# Altium schematic symbol library kmilo17pet-Microchip_MixedSignal.SchLib: 1399 symbols (part 35 of 36)
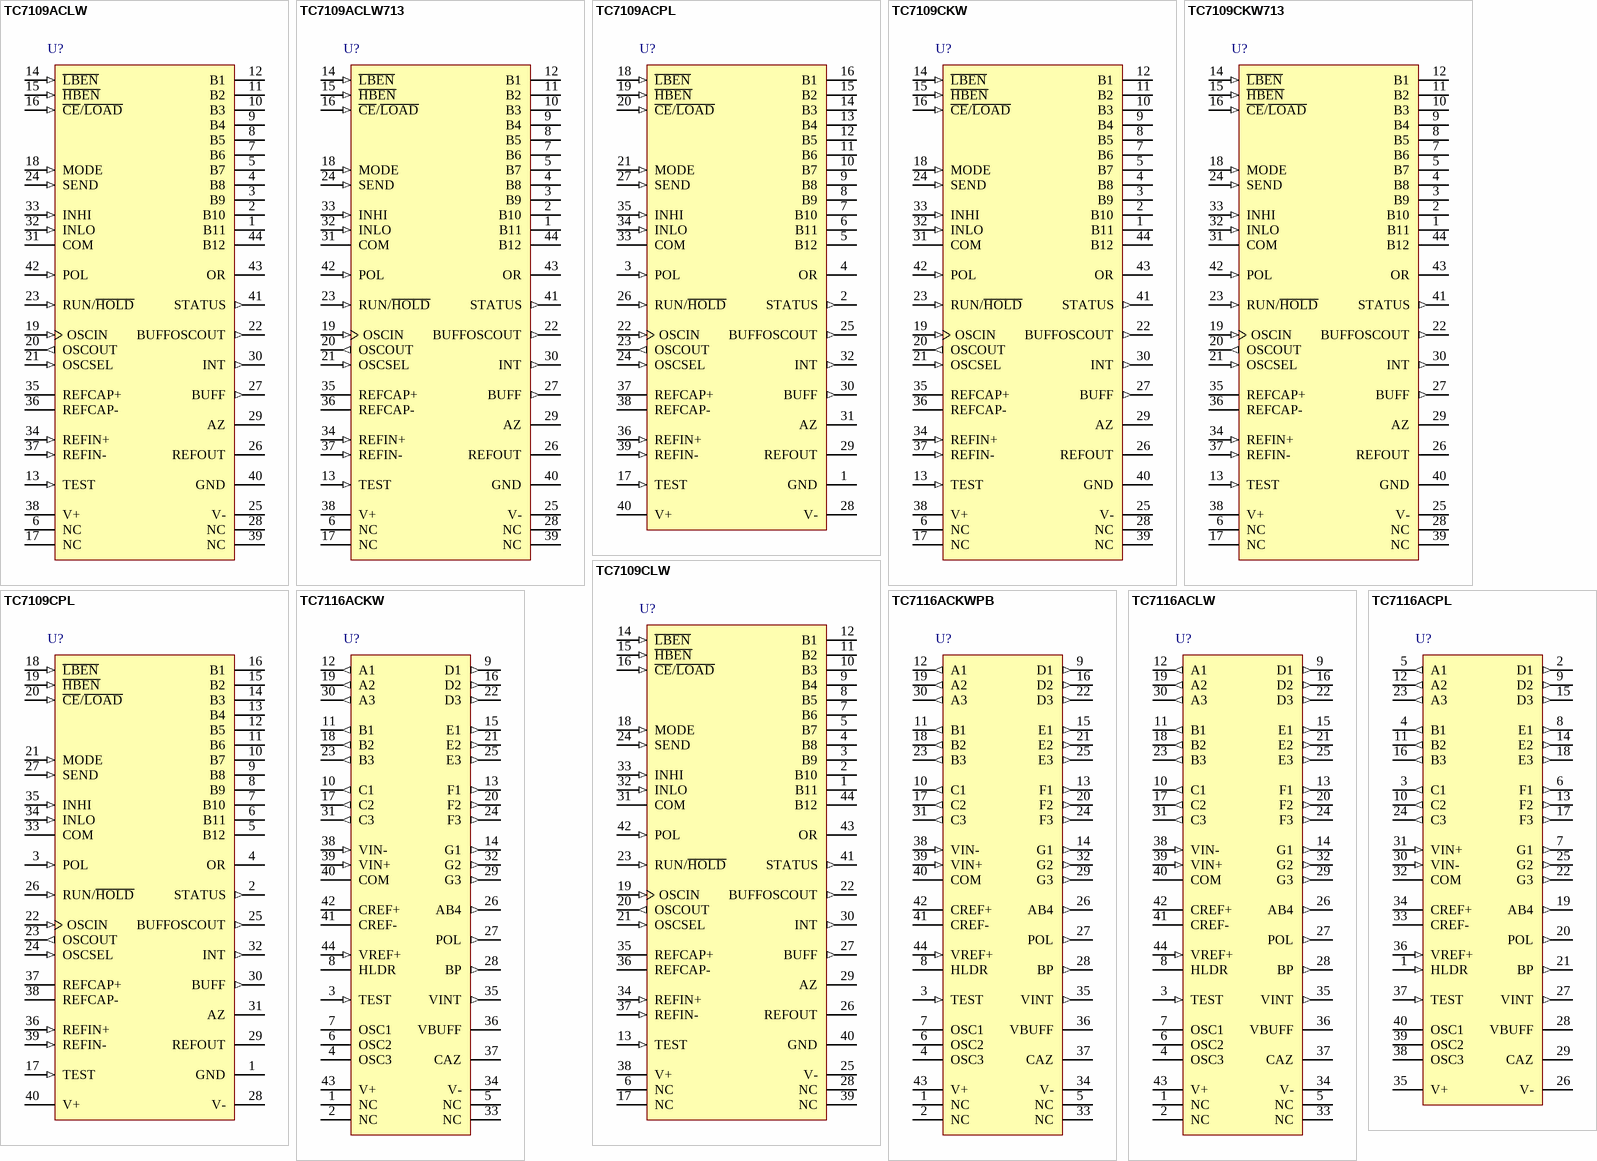
[diagram p78: symbols TC7109ACLW to TC7116ACPL]

## TC7116ACKWPB
designator U?
3-1/2 Digit Analog-to-Digital Converters with Hold, 44-Pin MQFP, Commercial Temperature; Manufacturer: Microchip; PartNumber: TC7116ACKWPB; DatasheetVersion: revA, Sep-2006; PackageVersion: revBB, Aug-2009; PackageReference: MQFP-KW44; PackageDescription: 44-Lead Plastic Metric Quad Flatpack (KW) - 10x10x2mm Body, 3.20mm [MQFP]; Mounting Technology: Surface Mount; Code_JEDEC: MS-022-AB; Code_IPC: QFP80P1320X1320-44; ComponentLink1Description: Manufacturer URL; ComponentLink1URL: http://www.microchip.com/; ComponentLink2Description: Datasheet; ComponentLink2URL: http://ww1.microchip.com/downloads/en/DeviceDoc/22011A.pdf; ComponentLink3Description: Package Specification; ComponentLink3URL: http://www.microchip.com/stellent/groups/techpub_sg/documents/packagingspec/en012702.pdf
footprint MQFP-KW44_N (QFP, 44-Leads, Body 10x10mm, Pitch 0.8mm, IPC Medium Density)
footprint MQFP-KW44_L (QFP, 44-Leads, Body 10x10mm, Pitch 0.8mm, IPC High Density)
footprint MQFP-KW44_M (QFP, 44-Leads, Body 10x10mm, Pitch 0.8mm, IPC Low Density)
pins: 1 NC, 2 NC, 3 TEST (in), 4 OSC3, 5 NC, 6 OSC2, 7 OSC1, 8 HLDR, 9 D1 (out), 10 C1 (out), 11 B1 (out), 12 A1 (out), 13 F1 (out), 14 G1 (out), 15 E1 (out), 16 D2 (out), 17 C2 (out), 18 B2 (out), 19 A2 (out), 20 F2 (out), 21 E2 (out), 22 D3 (out), 23 B3 (out), 24 F3 (out), 25 E3 (out), 26 AB4 (out), 27 POL (out), 28 BP (out), 29 G3 (out), 30 A3 (out), 31 C3 (out), 32 G2 (out), 33 NC, 34 V- (power), 35 VINT (out), 36 VBUFF, 37 CAZ, 38 VIN- (in), 39 VIN+ (in), 40 COM (power), 41 CREF-, 42 CREF+, 43 V+ (power), 44 VREF+ (in)

## TC7116ACLW
designator U?
3-1/2 Digit Analog-to-Digital Converters with Hold, 44-Pin PLCC, Commercial Temperature; Manufacturer: Microchip; PartNumber: TC7116ACLW; DatasheetVersion: Feb-2006; PackageVersion: revBB, Aug-2009; PackageReference: PLCC-LW44; PackageDescription: 44-Lead Plastic Leaded Chip Carrier (LW) - Square [PLCC]; Supplier 1: Digi-Key; Supplier Part Number 1: TC7116ACLW-ND; Mounting Technology: Surface Mount; Code_IPC: PLCC-44; ComponentLink1Description: Manufacturer URL; ComponentLink1URL: http://www.microchip.com/; ComponentLink2Description: Datasheet; ComponentLink2URL: http://ww1.microchip.com/downloads/en/DeviceDoc/21457C.pdf; ComponentLink3Description: Package Specification; ComponentLink3URL: http://www.microchip.com/stellent/groups/techpub_sg/documents/packagingspec/en012702.pdf
footprint PLCC-LW44_N (Leaded Chip Carrier, 44-Leads, Body 16.6x16.6mm, Pitch 1.27mm, IPC Medium Density)
footprint PLCC-LW44_L (Leaded Chip Carrier, 44-Leads, Body 16.6x16.6mm, Pitch 1.27mm, IPC High Density)
footprint PLCC-LW44_M (Leaded Chip Carrier, 44-Leads, Body 16.6x16.6mm, Pitch 1.27mm, IPC Low Density)
pins: 1 NC, 2 NC, 3 TEST (in), 4 OSC3, 5 NC, 6 OSC2, 7 OSC1, 8 HLDR, 9 D1 (out), 10 C1 (out), 11 B1 (out), 12 A1 (out), 13 F1 (out), 14 G1 (out), 15 E1 (out), 16 D2 (out), 17 C2 (out), 18 B2 (out), 19 A2 (out), 20 F2 (out), 21 E2 (out), 22 D3 (out), 23 B3 (out), 24 F3 (out), 25 E3 (out), 26 AB4 (out), 27 POL (out), 28 BP (out), 29 G3 (out), 30 A3 (out), 31 C3 (out), 32 G2 (out), 33 NC, 34 V- (power), 35 VINT (out), 36 VBUFF, 37 CAZ, 38 VIN- (in), 39 VIN+ (in), 40 COM (power), 41 CREF-, 42 CREF+, 43 V+ (power), 44 VREF+ (in)

## TC7116ACPL
designator U?
3-1/2 Digit Analog-to-Digital Converters with Hold, 40-Pin PDIP, Commercial Temperature; Manufacturer: Microchip; PartNumber: TC7116ACPL; DatasheetVersion: Feb-2006; PackageVersion: revBB, Aug-2009; PackageReference: PDIP600-PL40; PackageDescription: 40-Lead Plastic Dual In-Line (PL) - 600mil Body [PDIP]; Supplier 1: Digi-Key; Supplier Part Number 1: TC7116ACPL-ND; Mounting Technology: Through Hole; ComponentLink1Description: Manufacturer URL; ComponentLink1URL: http://www.microchip.com/; ComponentLink2Description: Datasheet; ComponentLink2URL: http://ww1.microchip.com/downloads/en/DeviceDoc/21457C.pdf; ComponentLink3Description: Package Specification; ComponentLink3URL: http://www.microchip.com/stellent/groups/techpub_sg/documents/packagingspec/en012702.pdf
footprint PDIP600-PL40 (DIP, 40-Leads, Row Spacing 15.24mm, Pitch 2.54mm, Body 51.8x13.5mm)
pins: 1 HLDR (in), 2 D1 (out), 3 C1 (out), 4 B1 (out), 5 A1 (out), 6 F1 (out), 7 G1 (out), 8 E1 (out), 9 D2 (out), 10 C2 (out), 11 B2 (out), 12 A2 (out), 13 F2 (out), 14 E2 (out), 15 D3 (out), 16 B3 (out), 17 F3 (out), 18 E3 (out), 19 AB4 (out), 20 POL (out), 21 BP (out), 22 G3 (out), 23 A3 (out), 24 C3 (out), 25 G2 (out), 26 V- (power), 27 VINT (out), 28 VBUFF, 29 CAZ, 30 VIN- (in), 31 VIN+ (in), 32 COM (power), 33 CREF-, 34 CREF+, 35 V+ (power), 36 VREF+ (in), 37 TEST (in), 38 OSC3, 39 OSC2, 40 OSC1

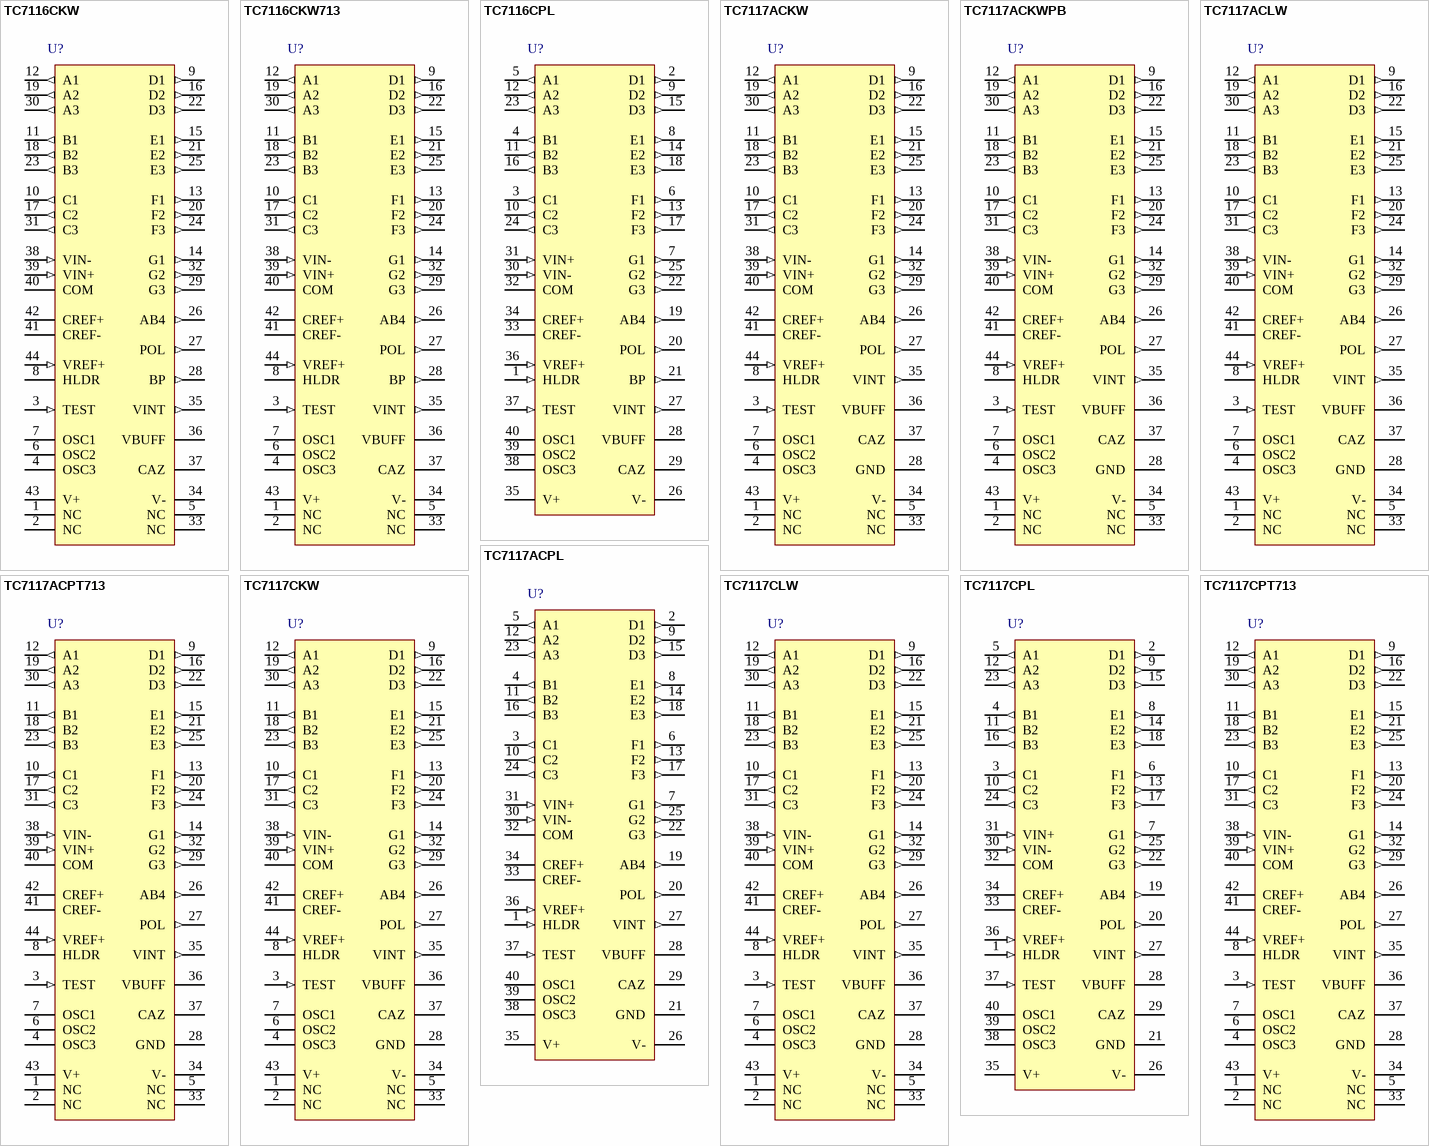
[diagram p42: symbols TC7116CKW to TC7117CPT713]

## TC7116CKW
designator U?
3-1/2 Digit Analog-to-Digital Converters with Hold, 44-Pin MQFP, Commercial Temperature; Manufacturer: Microchip; PartNumber: TC7116CKW; DatasheetVersion: Feb-2006; PackageVersion: revBB, Aug-2009; PackageReference: MQFP-KW44; PackageDescription: 44-Lead Plastic Metric Quad Flatpack (KW) - 10x10x2mm Body, 3.20mm [MQFP]; Supplier 1: Digi-Key; Supplier Part Number 1: TC7116CKW-ND; Mounting Technology: Surface Mount; Code_JEDEC: MS-022-AB; Code_IPC: QFP80P1320X1320-44; ComponentLink1Description: Manufacturer URL; ComponentLink1URL: http://www.microchip.com/; ComponentLink2Description: Datasheet; ComponentLink2URL: http://ww1.microchip.com/downloads/en/DeviceDoc/21457C.pdf; ComponentLink3Description: Package Specification; ComponentLink3URL: http://www.microchip.com/stellent/groups/techpub_sg/documents/packagingspec/en012702.pdf
footprint MQFP-KW44_N (QFP, 44-Leads, Body 10x10mm, Pitch 0.8mm, IPC Medium Density)
footprint MQFP-KW44_L (QFP, 44-Leads, Body 10x10mm, Pitch 0.8mm, IPC High Density)
footprint MQFP-KW44_M (QFP, 44-Leads, Body 10x10mm, Pitch 0.8mm, IPC Low Density)
pins: 1 NC, 2 NC, 3 TEST (in), 4 OSC3, 5 NC, 6 OSC2, 7 OSC1, 8 HLDR, 9 D1 (out), 10 C1 (out), 11 B1 (out), 12 A1 (out), 13 F1 (out), 14 G1 (out), 15 E1 (out), 16 D2 (out), 17 C2 (out), 18 B2 (out), 19 A2 (out), 20 F2 (out), 21 E2 (out), 22 D3 (out), 23 B3 (out), 24 F3 (out), 25 E3 (out), 26 AB4 (out), 27 POL (out), 28 BP (out), 29 G3 (out), 30 A3 (out), 31 C3 (out), 32 G2 (out), 33 NC, 34 V- (power), 35 VINT (out), 36 VBUFF, 37 CAZ, 38 VIN- (in), 39 VIN+ (in), 40 COM (power), 41 CREF-, 42 CREF+, 43 V+ (power), 44 VREF+ (in)

## TC7116CKW713
designator U?
3-1/2 Digit Analog-to-Digital Converters with Hold, 44-Pin MQFP, Commercial Temperature, Tape and Reel; Manufacturer: Microchip; PartNumber: TC7116CKW713; DatasheetVersion: Feb-2006; PackageVersion: revBB, Aug-2009; PackageReference: MQFP-KW44; PackageDescription: 44-Lead Plastic Metric Quad Flatpack (KW) - 10x10x2mm Body, 3.20mm [MQFP]; Supplier 1: Digi-Key; Supplier Part Number 1: TC7116CKW713-ND; Mounting Technology: Surface Mount; Code_JEDEC: MS-022-AB; Code_IPC: QFP80P1320X1320-44; ComponentLink1Description: Manufacturer URL; ComponentLink1URL: http://www.microchip.com/; ComponentLink2Description: Datasheet; ComponentLink2URL: http://ww1.microchip.com/downloads/en/DeviceDoc/21457C.pdf; ComponentLink3Description: Package Specification; ComponentLink3URL: http://www.microchip.com/stellent/groups/techpub_sg/documents/packagingspec/en012702.pdf
footprint MQFP-KW44_N (QFP, 44-Leads, Body 10x10mm, Pitch 0.8mm, IPC Medium Density)
footprint MQFP-KW44_L (QFP, 44-Leads, Body 10x10mm, Pitch 0.8mm, IPC High Density)
footprint MQFP-KW44_M (QFP, 44-Leads, Body 10x10mm, Pitch 0.8mm, IPC Low Density)
pins: 1 NC, 2 NC, 3 TEST (in), 4 OSC3, 5 NC, 6 OSC2, 7 OSC1, 8 HLDR, 9 D1 (out), 10 C1 (out), 11 B1 (out), 12 A1 (out), 13 F1 (out), 14 G1 (out), 15 E1 (out), 16 D2 (out), 17 C2 (out), 18 B2 (out), 19 A2 (out), 20 F2 (out), 21 E2 (out), 22 D3 (out), 23 B3 (out), 24 F3 (out), 25 E3 (out), 26 AB4 (out), 27 POL (out), 28 BP (out), 29 G3 (out), 30 A3 (out), 31 C3 (out), 32 G2 (out), 33 NC, 34 V- (power), 35 VINT (out), 36 VBUFF, 37 CAZ, 38 VIN- (in), 39 VIN+ (in), 40 COM (power), 41 CREF-, 42 CREF+, 43 V+ (power), 44 VREF+ (in)

## TC7116CPL
designator U?
3-1/2 Digit Analog-to-Digital Converters with Hold, 40-Pin PDIP, Commercial Temperature; Manufacturer: Microchip; PartNumber: TC7116CPL; DatasheetVersion: Feb-2006; PackageVersion: revBB, Aug-2009; PackageReference: PDIP600-PL40; PackageDescription: 40-Lead Plastic Dual In-Line (PL) - 600mil Body [PDIP]; Supplier 1: Digi-Key; Supplier Part Number 1: TC7116CPL-ND; Mounting Technology: Through Hole; ComponentLink1Description: Manufacturer URL; ComponentLink1URL: http://www.microchip.com/; ComponentLink2Description: Datasheet; ComponentLink2URL: http://ww1.microchip.com/downloads/en/DeviceDoc/21457C.pdf; ComponentLink3Description: Package Specification; ComponentLink3URL: http://www.microchip.com/stellent/groups/techpub_sg/documents/packagingspec/en012702.pdf
footprint PDIP600-PL40 (DIP, 40-Leads, Row Spacing 15.24mm, Pitch 2.54mm, Body 51.8x13.5mm)
pins: 1 HLDR (in), 2 D1 (out), 3 C1 (out), 4 B1 (out), 5 A1 (out), 6 F1 (out), 7 G1 (out), 8 E1 (out), 9 D2 (out), 10 C2 (out), 11 B2 (out), 12 A2 (out), 13 F2 (out), 14 E2 (out), 15 D3 (out), 16 B3 (out), 17 F3 (out), 18 E3 (out), 19 AB4 (out), 20 POL (out), 21 BP (out), 22 G3 (out), 23 A3 (out), 24 C3 (out), 25 G2 (out), 26 V- (power), 27 VINT (out), 28 VBUFF, 29 CAZ, 30 VIN- (in), 31 VIN+ (in), 32 COM (power), 33 CREF-, 34 CREF+, 35 V+ (power), 36 VREF+ (in), 37 TEST (in), 38 OSC3, 39 OSC2, 40 OSC1

## TC7117ACKW
designator U?
3-1/2 Digit Analog-to-Digital Converters with Hold, 44-Pin MQFP, Commercial Temperature; Manufacturer: Microchip; PartNumber: TC7117ACKW; DatasheetVersion: Feb-2006; PackageVersion: revBB, Aug-2009; PackageReference: MQFP-KW44; PackageDescription: 44-Lead Plastic Metric Quad Flatpack (KW) - 10x10x2mm Body, 3.20mm [MQFP]; Supplier 1: Digi-Key; Supplier Part Number 1: TC7117ACKW-ND; Mounting Technology: Surface Mount; Code_JEDEC: MS-022-AB; Code_IPC: QFP80P1320X1320-44; ComponentLink1Description: Manufacturer URL; ComponentLink1URL: http://www.microchip.com/; ComponentLink2Description: Datasheet; ComponentLink2URL: http://ww1.microchip.com/downloads/en/DeviceDoc/21457C.pdf; ComponentLink3Description: Package Specification; ComponentLink3URL: http://www.microchip.com/stellent/groups/techpub_sg/documents/packagingspec/en012702.pdf
footprint MQFP-KW44_N (QFP, 44-Leads, Body 10x10mm, Pitch 0.8mm, IPC Medium Density)
footprint MQFP-KW44_L (QFP, 44-Leads, Body 10x10mm, Pitch 0.8mm, IPC High Density)
footprint MQFP-KW44_M (QFP, 44-Leads, Body 10x10mm, Pitch 0.8mm, IPC Low Density)
pins: 1 NC, 2 NC, 3 TEST (in), 4 OSC3, 5 NC, 6 OSC2, 7 OSC1, 8 HLDR, 9 D1 (out), 10 C1 (out), 11 B1 (out), 12 A1 (out), 13 F1 (out), 14 G1 (out), 15 E1 (out), 16 D2 (out), 17 C2 (out), 18 B2 (out), 19 A2 (out), 20 F2 (out), 21 E2 (out), 22 D3 (out), 23 B3 (out), 24 F3 (out), 25 E3 (out), 26 AB4 (out), 27 POL (out), 28 GND (power), 29 G3 (out), 30 A3 (out), 31 C3 (out), 32 G2 (out), 33 NC, 34 V- (power), 35 VINT (out), 36 VBUFF, 37 CAZ, 38 VIN- (in), 39 VIN+ (in), 40 COM (power), 41 CREF-, 42 CREF+, 43 V+ (power), 44 VREF+ (in)

## TC7117ACKWPB
designator U?
3-1/2 Digit Analog-to-Digital Converters with Hold, 44-Pin MQFP, Commercial Temperature; Manufacturer: Microchip; PartNumber: TC7117ACKWPB; DatasheetVersion: Feb-2006; PackageVersion: revBB, Aug-2009; PackageReference: MQFP-KW44; PackageDescription: 44-Lead Plastic Metric Quad Flatpack (KW) - 10x10x2mm Body, 3.20mm [MQFP]; Mounting Technology: Surface Mount; Code_JEDEC: MS-022-AB; Code_IPC: QFP80P1320X1320-44; ComponentLink1Description: Manufacturer URL; ComponentLink1URL: http://www.microchip.com/; ComponentLink2Description: Datasheet; ComponentLink2URL: http://ww1.microchip.com/downloads/en/DeviceDoc/21457C.pdf; ComponentLink3Description: Package Specification; ComponentLink3URL: http://www.microchip.com/stellent/groups/techpub_sg/documents/packagingspec/en012702.pdf
footprint MQFP-KW44_N (QFP, 44-Leads, Body 10x10mm, Pitch 0.8mm, IPC Medium Density)
footprint MQFP-KW44_L (QFP, 44-Leads, Body 10x10mm, Pitch 0.8mm, IPC High Density)
footprint MQFP-KW44_M (QFP, 44-Leads, Body 10x10mm, Pitch 0.8mm, IPC Low Density)
pins: 1 NC, 2 NC, 3 TEST (in), 4 OSC3, 5 NC, 6 OSC2, 7 OSC1, 8 HLDR, 9 D1 (out), 10 C1 (out), 11 B1 (out), 12 A1 (out), 13 F1 (out), 14 G1 (out), 15 E1 (out), 16 D2 (out), 17 C2 (out), 18 B2 (out), 19 A2 (out), 20 F2 (out), 21 E2 (out), 22 D3 (out), 23 B3 (out), 24 F3 (out), 25 E3 (out), 26 AB4 (out), 27 POL (out), 28 GND (power), 29 G3 (out), 30 A3 (out), 31 C3 (out), 32 G2 (out), 33 NC, 34 V- (power), 35 VINT (out), 36 VBUFF, 37 CAZ, 38 VIN- (in), 39 VIN+ (in), 40 COM (power), 41 CREF-, 42 CREF+, 43 V+ (power), 44 VREF+ (in)

## TC7117ACLW
designator U?
3-1/2 Digit Analog-to-Digital Converters with Hold, 44-Pin PLCC, Commercial Temperature; Manufacturer: Microchip; PartNumber: TC7117ACLW; DatasheetVersion: Feb-2006; PackageVersion: revBB, Aug-2009; PackageReference: PLCC-LW44; PackageDescription: 44-Lead Plastic Leaded Chip Carrier (LW) - Square [PLCC]; Supplier 1: Digi-Key; Supplier Part Number 1: TC7117ACLW-ND; Mounting Technology: Surface Mount; Code_IPC: PLCC-44; ComponentLink1Description: Manufacturer URL; ComponentLink1URL: http://www.microchip.com/; ComponentLink2Description: Datasheet; ComponentLink2URL: http://ww1.microchip.com/downloads/en/DeviceDoc/21457C.pdf; ComponentLink3Description: Package Specification; ComponentLink3URL: http://www.microchip.com/stellent/groups/techpub_sg/documents/packagingspec/en012702.pdf
footprint PLCC-LW44_N (Leaded Chip Carrier, 44-Leads, Body 16.6x16.6mm, Pitch 1.27mm, IPC Medium Density)
footprint PLCC-LW44_L (Leaded Chip Carrier, 44-Leads, Body 16.6x16.6mm, Pitch 1.27mm, IPC High Density)
footprint PLCC-LW44_M (Leaded Chip Carrier, 44-Leads, Body 16.6x16.6mm, Pitch 1.27mm, IPC Low Density)
pins: 1 NC, 2 NC, 3 TEST (in), 4 OSC3, 5 NC, 6 OSC2, 7 OSC1, 8 HLDR, 9 D1 (out), 10 C1 (out), 11 B1 (out), 12 A1 (out), 13 F1 (out), 14 G1 (out), 15 E1 (out), 16 D2 (out), 17 C2 (out), 18 B2 (out), 19 A2 (out), 20 F2 (out), 21 E2 (out), 22 D3 (out), 23 B3 (out), 24 F3 (out), 25 E3 (out), 26 AB4 (out), 27 POL (out), 28 GND (power), 29 G3 (out), 30 A3 (out), 31 C3 (out), 32 G2 (out), 33 NC, 34 V- (power), 35 VINT (out), 36 VBUFF, 37 CAZ, 38 VIN- (in), 39 VIN+ (in), 40 COM (power), 41 CREF-, 42 CREF+, 43 V+ (power), 44 VREF+ (in)

## TC7117ACPL
designator U?
3-1/2 Digit Analog-to-Digital Converters with Hold, 40-Pin PDIP, Commercial Temperature; Manufacturer: Microchip; PartNumber: TC7117ACPL; DatasheetVersion: Feb-2006; PackageVersion: revBB, Aug-2009; PackageReference: PDIP600-PL40; PackageDescription: 40-Lead Plastic Dual In-Line (PL) - 600mil Body [PDIP]; Supplier 1: Digi-Key; Supplier Part Number 1: TC7117ACPL-ND; Mounting Technology: Through Hole; ComponentLink1Description: Manufacturer URL; ComponentLink1URL: http://www.microchip.com/; ComponentLink2Description: Datasheet; ComponentLink2URL: http://ww1.microchip.com/downloads/en/DeviceDoc/21457C.pdf; ComponentLink3Description: Package Specification; ComponentLink3URL: http://www.microchip.com/stellent/groups/techpub_sg/documents/packagingspec/en012702.pdf
footprint PDIP600-PL40 (DIP, 40-Leads, Row Spacing 15.24mm, Pitch 2.54mm, Body 51.8x13.5mm)
pins: 1 HLDR (in), 2 D1 (out), 3 C1 (out), 4 B1 (out), 5 A1 (out), 6 F1 (out), 7 G1 (out), 8 E1 (out), 9 D2 (out), 10 C2 (out), 11 B2 (out), 12 A2 (out), 13 F2 (out), 14 E2 (out), 15 D3 (out), 16 B3 (out), 17 F3 (out), 18 E3 (out), 19 AB4 (out), 20 POL (out), 21 GND (power), 22 G3 (out), 23 A3 (out), 24 C3 (out), 25 G2 (out), 26 V- (power), 27 VINT (out), 28 VBUFF, 29 CAZ, 30 VIN- (in), 31 VIN+ (in), 32 COM (power), 33 CREF-, 34 CREF+, 35 V+ (power), 36 VREF+ (in), 37 TEST (in), 38 OSC3, 39 OSC2, 40 OSC1

## TC7117ACPT713
designator U?
3-1/2 Digit Analog-to-Digital Converters with Hold, 44-Pin TQFP, Commercial Temperature, Tape and Reel; Manufacturer: Microchip; PartNumber: TC7117ACPT713; DatasheetVersion: Feb-2006; PackageVersion: revBB, Aug-2009; PackageReference: TQFP-PT44; PackageDescription: 44-Lead Plastic Thin Quad Flatpack (PT) - 10x10x1mm Body, 2.00mm [TQFP]; Mounting Technology: Surface Mount; Code_JEDEC: MS-026; ComponentLink1Description: Manufacturer URL; ComponentLink1URL: http://www.microchip.com/; ComponentLink2Description: Datasheet; ComponentLink2URL: http://ww1.microchip.com/downloads/en/DeviceDoc/21457c.pdf; ComponentLink3Description: Package Specification; ComponentLink3URL: http://www.microchip.com/stellent/groups/techpub_sg/documents/packagingspec/en012702.pdf
footprint TQFP-PT44_N (Thin QFP, 44-Leads, Body 10x10mm, Pitch 0.8mm, IPC Medium Density)
footprint TQFP-PT44_L (Thin QFP, 44-Leads, Body 10x10mm, Pitch 0.8mm, IPC High Density)
footprint TQFP-PT44_M (Thin QFP, 44-Leads, Body 10x10mm, Pitch 0.8mm, IPC Low Density)
pins: 1 NC, 2 NC, 3 TEST (in), 4 OSC3, 5 NC, 6 OSC2, 7 OSC1, 8 HLDR, 9 D1 (out), 10 C1 (out), 11 B1 (out), 12 A1 (out), 13 F1 (out), 14 G1 (out), 15 E1 (out), 16 D2 (out), 17 C2 (out), 18 B2 (out), 19 A2 (out), 20 F2 (out), 21 E2 (out), 22 D3 (out), 23 B3 (out), 24 F3 (out), 25 E3 (out), 26 AB4 (out), 27 POL (out), 28 GND (power), 29 G3 (out), 30 A3 (out), 31 C3 (out), 32 G2 (out), 33 NC, 34 V- (power), 35 VINT (out), 36 VBUFF, 37 CAZ, 38 VIN- (in), 39 VIN+ (in), 40 COM (power), 41 CREF-, 42 CREF+, 43 V+ (power), 44 VREF+ (in)

## TC7117CKW
designator U?
3-1/2 Digit Analog-to-Digital Converters with Hold, 44-Pin MQFP, Commercial Temperature; Manufacturer: Microchip; PartNumber: TC7117CKW; DatasheetVersion: Feb-2006; PackageVersion: revBB, Aug-2009; PackageReference: MQFP-KW44; PackageDescription: 44-Lead Plastic Metric Quad Flatpack (KW) - 10x10x2mm Body, 3.20mm [MQFP]; Supplier 1: Digi-Key; Supplier Part Number 1: TC7117CKW-ND; Mounting Technology: Surface Mount; Code_JEDEC: MS-022-AB; Code_IPC: QFP80P1320X1320-44; ComponentLink1Description: Manufacturer URL; ComponentLink1URL: http://www.microchip.com/; ComponentLink2Description: Datasheet; ComponentLink2URL: http://ww1.microchip.com/downloads/en/DeviceDoc/21457C.pdf; ComponentLink3Description: Package Specification; ComponentLink3URL: http://www.microchip.com/stellent/groups/techpub_sg/documents/packagingspec/en012702.pdf
footprint MQFP-KW44_N (QFP, 44-Leads, Body 10x10mm, Pitch 0.8mm, IPC Medium Density)
footprint MQFP-KW44_L (QFP, 44-Leads, Body 10x10mm, Pitch 0.8mm, IPC High Density)
footprint MQFP-KW44_M (QFP, 44-Leads, Body 10x10mm, Pitch 0.8mm, IPC Low Density)
pins: 1 NC, 2 NC, 3 TEST (in), 4 OSC3, 5 NC, 6 OSC2, 7 OSC1, 8 HLDR, 9 D1 (out), 10 C1 (out), 11 B1 (out), 12 A1 (out), 13 F1 (out), 14 G1 (out), 15 E1 (out), 16 D2 (out), 17 C2 (out), 18 B2 (out), 19 A2 (out), 20 F2 (out), 21 E2 (out), 22 D3 (out), 23 B3 (out), 24 F3 (out), 25 E3 (out), 26 AB4 (out), 27 POL (out), 28 GND (power), 29 G3 (out), 30 A3 (out), 31 C3 (out), 32 G2 (out), 33 NC, 34 V- (power), 35 VINT (out), 36 VBUFF, 37 CAZ, 38 VIN- (in), 39 VIN+ (in), 40 COM (power), 41 CREF-, 42 CREF+, 43 V+ (power), 44 VREF+ (in)

## TC7117CLW
designator U?
3-1/2 Digit Analog-to-Digital Converters with Hold, 44-Pin PLCC, Commercial Temperature; Manufacturer: Microchip; PartNumber: TC7117CLW; DatasheetVersion: Feb-2006; PackageVersion: revBB, Aug-2009; PackageReference: PLCC-LW44; PackageDescription: 44-Lead Plastic Leaded Chip Carrier (LW) - Square [PLCC]; Supplier 1: Digi-Key; Supplier Part Number 1: TC7117CLW-ND; Mounting Technology: Surface Mount; Code_IPC: PLCC-44; ComponentLink1Description: Manufacturer URL; ComponentLink1URL: http://www.microchip.com/; ComponentLink2Description: Datasheet; ComponentLink2URL: http://ww1.microchip.com/downloads/en/DeviceDoc/21457c.pdf; ComponentLink3Description: Package Specification; ComponentLink3URL: http://www.microchip.com/stellent/groups/techpub_sg/documents/packagingspec/en012702.pdf
footprint PLCC-LW44_N (Leaded Chip Carrier, 44-Leads, Body 16.6x16.6mm, Pitch 1.27mm, IPC Medium Density)
footprint PLCC-LW44_L (Leaded Chip Carrier, 44-Leads, Body 16.6x16.6mm, Pitch 1.27mm, IPC High Density)
footprint PLCC-LW44_M (Leaded Chip Carrier, 44-Leads, Body 16.6x16.6mm, Pitch 1.27mm, IPC Low Density)
pins: 1 NC, 2 NC, 3 TEST (in), 4 OSC3, 5 NC, 6 OSC2, 7 OSC1, 8 HLDR, 9 D1 (out), 10 C1 (out), 11 B1 (out), 12 A1 (out), 13 F1 (out), 14 G1 (out), 15 E1 (out), 16 D2 (out), 17 C2 (out), 18 B2 (out), 19 A2 (out), 20 F2 (out), 21 E2 (out), 22 D3 (out), 23 B3 (out), 24 F3 (out), 25 E3 (out), 26 AB4 (out), 27 POL (out), 28 GND (power), 29 G3 (out), 30 A3 (out), 31 C3 (out), 32 G2 (out), 33 NC, 34 V- (power), 35 VINT (out), 36 VBUFF, 37 CAZ, 38 VIN- (in), 39 VIN+ (in), 40 COM (power), 41 CREF-, 42 CREF+, 43 V+ (power), 44 VREF+ (in)

## TC7117CPL
designator U?
3-1/2 Digit Analog-to-Digital Converters with Hold, 40-Pin PDIP, Commercial Temperature; Manufacturer: Microchip; PartNumber: TC7117CPL; DatasheetVersion: Feb-2006; PackageVersion: revBB, Aug-2009; PackageReference: PDIP600-PL40; PackageDescription: 40-Lead Plastic Dual In-Line (PL) - 600mil Body [PDIP]; Supplier 1: Digi-Key; Supplier Part Number 1: TC7117CPL-ND; Mounting Technology: Through Hole; ComponentLink1Description: Manufacturer URL; ComponentLink1URL: http://www.microchip.com/; ComponentLink2Description: Datasheet; ComponentLink2URL: http://ww1.microchip.com/downloads/en/DeviceDoc/21457C.pdf; ComponentLink3Description: Package Specification; ComponentLink3URL: http://www.microchip.com/stellent/groups/techpub_sg/documents/packagingspec/en012702.pdf
footprint PDIP600-PL40 (DIP, 40-Leads, Row Spacing 15.24mm, Pitch 2.54mm, Body 51.8x13.5mm)
pins: 1 HLDR (in), 2 D1 (out), 3 C1 (out), 4 B1 (out), 5 A1 (out), 6 F1 (out), 7 G1 (out), 8 E1 (out), 9 D2 (out), 10 C2 (out), 11 B2 (out), 12 A2 (out), 13 F2 (out), 14 E2 (out), 15 D3 (out), 16 B3 (out), 17 F3 (out), 18 E3 (out), 19 AB4 (out), 20 POL (out), 21 GND (power), 22 G3 (out), 23 A3 (out), 24 C3 (out), 25 G2 (out), 26 V- (power), 27 VINT (out), 28 VBUFF, 29 CAZ, 30 VIN- (in), 31 VIN+ (in), 32 COM (power), 33 CREF-, 34 CREF+, 35 V+ (power), 36 VREF+ (in), 37 TEST (in), 38 OSC3, 39 OSC2, 40 OSC1

## TC7117CPT713
designator U?
3-1/2 Digit Analog-to-Digital Converters with Hold, 44-Pin TQFP, Commercial Temperature, Tape and Reel; Manufacturer: Microchip; PartNumber: TC7117CPT713; DatasheetVersion: Feb-2006; PackageVersion: revBB, Aug-2009; PackageReference: TQFP-PT44; PackageDescription: 44-Lead Plastic Thin Quad Flatpack (PT) - 10x10x1mm Body, 2.00mm [TQFP]; Mounting Technology: Surface Mount; Code_JEDEC: MS-026; ComponentLink1Description: Manufacturer URL; ComponentLink1URL: http://www.microchip.com/; ComponentLink2Description: Datasheet; ComponentLink2URL: http://ww1.microchip.com/downloads/en/DeviceDoc/21457c.pdf; ComponentLink3Description: Package Specification; ComponentLink3URL: http://www.microchip.com/stellent/groups/techpub_sg/documents/packagingspec/en012702.pdf
footprint TQFP-PT44_N (Thin QFP, 44-Leads, Body 10x10mm, Pitch 0.8mm, IPC Medium Density)
footprint TQFP-PT44_L (Thin QFP, 44-Leads, Body 10x10mm, Pitch 0.8mm, IPC High Density)
footprint TQFP-PT44_M (Thin QFP, 44-Leads, Body 10x10mm, Pitch 0.8mm, IPC Low Density)
pins: 1 NC, 2 NC, 3 TEST (in), 4 OSC3, 5 NC, 6 OSC2, 7 OSC1, 8 HLDR, 9 D1 (out), 10 C1 (out), 11 B1 (out), 12 A1 (out), 13 F1 (out), 14 G1 (out), 15 E1 (out), 16 D2 (out), 17 C2 (out), 18 B2 (out), 19 A2 (out), 20 F2 (out), 21 E2 (out), 22 D3 (out), 23 B3 (out), 24 F3 (out), 25 E3 (out), 26 AB4 (out), 27 POL (out), 28 GND (power), 29 G3 (out), 30 A3 (out), 31 C3 (out), 32 G2 (out), 33 NC, 34 V- (power), 35 VINT (out), 36 VBUFF, 37 CAZ, 38 VIN- (in), 39 VIN+ (in), 40 COM (power), 41 CREF-, 42 CREF+, 43 V+ (power), 44 VREF+ (in)

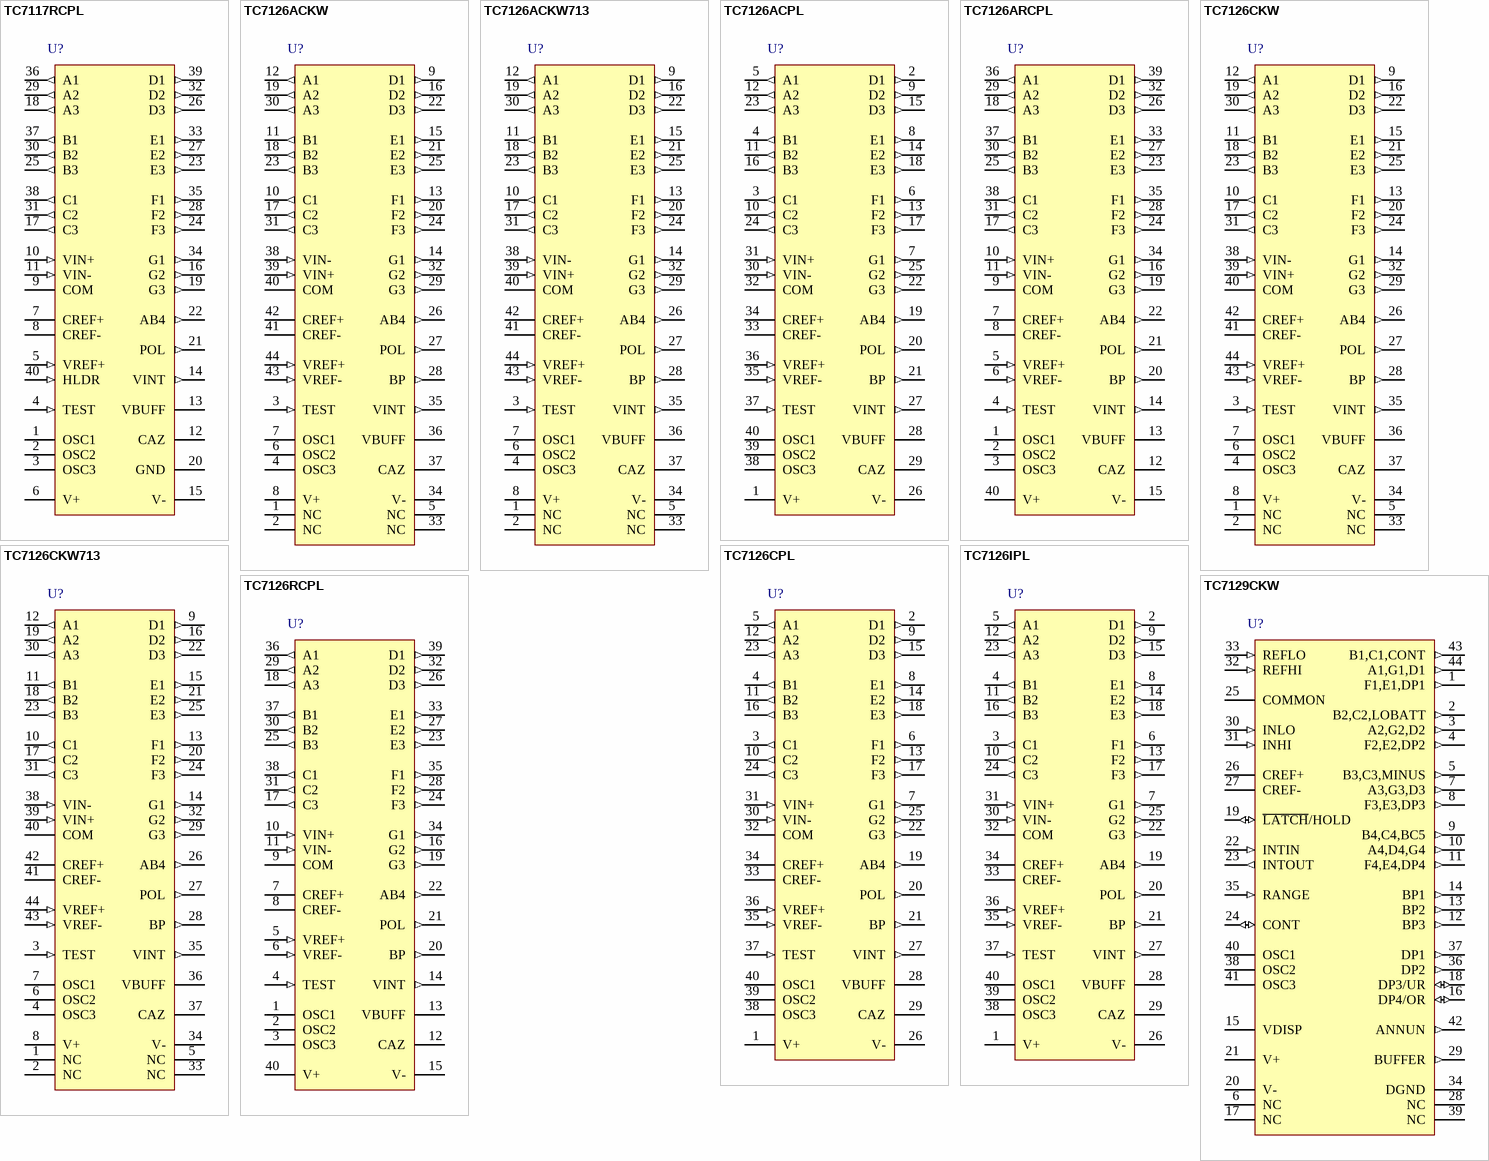
[diagram p43: symbols TC7117RCPL to TC7129CKW]

## TC7117RCPL
designator U?
3-1/2 Digit Analog-to-Digital Converters with Hold, 40-Pin PDIP, Commercial Temperature; Manufacturer: Microchip; PartNumber: TC7117RCPL; DatasheetVersion: Feb-2006; PackageVersion: revBB, Aug-2009; PackageReference: PDIP600-PL40; PackageDescription: 40-Lead Plastic Dual In-Line (PL) - 600mil Body [PDIP]; Supplier 1: Digi-Key; Supplier Part Number 1: TC7117RCPL-ND; Mounting Technology: Through Hole; ComponentLink1Description: Manufacturer URL; ComponentLink1URL: http://www.microchip.com/; ComponentLink2Description: Datasheet; ComponentLink2URL: http://ww1.microchip.com/downloads/en/DeviceDoc/21457C.pdf; ComponentLink3Description: Package Specification; ComponentLink3URL: http://www.microchip.com/stellent/groups/techpub_sg/documents/packagingspec/en012702.pdf
footprint PDIP600-PL40 (DIP, 40-Leads, Row Spacing 15.24mm, Pitch 2.54mm, Body 51.8x13.5mm)
pins: 1 OSC1, 2 OSC2, 3 OSC3, 4 TEST (in), 5 VREF+ (in), 6 V+ (power), 7 CREF+, 8 CREF-, 9 COM (power), 10 VIN+ (in), 11 VIN- (in), 12 CAZ, 13 VBUFF, 14 VINT (out), 15 V- (power), 16 G2 (out), 17 C3 (out), 18 A3 (out), 19 G3 (out), 20 GND (power), 21 POL (out), 22 AB4 (out), 23 E3 (out), 24 F3 (out), 25 B3 (out), 26 D3 (out), 27 E2 (out), 28 F2 (out), 29 A2 (out), 30 B2 (out), 31 C2 (out), 32 D2 (out), 33 E1 (out), 34 G1 (out), 35 F1 (out), 36 A1 (out), 37 B1 (out), 38 C1 (out), 39 D1 (out), 40 HLDR (in)

## TC7126ACKW
designator U?
3-1/2 Digit Analog-to-Digital Converters, 44-Pin MQFP, Commercial Temperature; Manufacturer: Microchip; PartNumber: TC7126ACKW; DatasheetVersion: Feb-2006; PackageVersion: revBB, Aug-2009; PackageReference: MQFP-KW44; PackageDescription: 44-Lead Plastic Metric Quad Flatpack (KW) - 10x10x2mm Body, 3.20mm [MQFP]; Supplier 1: Digi-Key; Supplier Part Number 1: TC7126ACKW-ND; Mounting Technology: Surface Mount; Code_JEDEC: MS-022-AB; Code_IPC: QFP80P1320X1320-44; ComponentLink1Description: Manufacturer URL; ComponentLink1URL: http://www.microchip.com/; ComponentLink2Description: Datasheet; ComponentLink2URL: http://ww1.microchip.com/downloads/en/DeviceDoc/21458C.pdf; ComponentLink3Description: Package Specification; ComponentLink3URL: http://www.microchip.com/stellent/groups/techpub_sg/documents/packagingspec/en012702.pdf
footprint MQFP-KW44_N (QFP, 44-Leads, Body 10x10mm, Pitch 0.8mm, IPC Medium Density)
footprint MQFP-KW44_L (QFP, 44-Leads, Body 10x10mm, Pitch 0.8mm, IPC High Density)
footprint MQFP-KW44_M (QFP, 44-Leads, Body 10x10mm, Pitch 0.8mm, IPC Low Density)
pins: 1 NC, 2 NC, 3 TEST (in), 4 OSC3, 5 NC, 6 OSC2, 7 OSC1, 8 V+ (power), 9 D1 (out), 10 C1 (out), 11 B1 (out), 12 A1 (out), 13 F1 (out), 14 G1 (out), 15 E1 (out), 16 D2 (out), 17 C2 (out), 18 B2 (out), 19 A2 (out), 20 F2 (out), 21 E2 (out), 22 D3 (out), 23 B3 (out), 24 F3 (out), 25 E3 (out), 26 AB4 (out), 27 POL (out), 28 BP (out), 29 G3 (out), 30 A3 (out), 31 C3 (out), 32 G2 (out), 33 NC, 34 V- (power), 35 VINT (out), 36 VBUFF, 37 CAZ, 38 VIN- (in), 39 VIN+ (in), 40 COM (power), 41 CREF-, 42 CREF+, 43 VREF- (in), 44 VREF+ (in)

## TC7126ACKW713
designator U?
3-1/2 Digit Analog-to-Digital Converters, 44-Pin MQFP, Commercial Temperature, Tape and Reel; Manufacturer: Microchip; PartNumber: TC7126ACKW713; DatasheetVersion: Feb-2006; PackageVersion: revBB, Aug-2009; PackageReference: MQFP-KW44; PackageDescription: 44-Lead Plastic Metric Quad Flatpack (KW) - 10x10x2mm Body, 3.20mm [MQFP]; Supplier 1: Digi-Key; Supplier Part Number 1: TC7126ACKW713-ND; Mounting Technology: Surface Mount; Code_JEDEC: MS-022-AB; Code_IPC: QFP80P1320X1320-44; ComponentLink1Description: Manufacturer URL; ComponentLink1URL: http://www.microchip.com/; ComponentLink2Description: Datasheet; ComponentLink2URL: http://ww1.microchip.com/downloads/en/DeviceDoc/21458c.pdf; ComponentLink3Description: Package Specification; ComponentLink3URL: http://www.microchip.com/stellent/groups/techpub_sg/documents/packagingspec/en012702.pdf
footprint MQFP-KW44_N (QFP, 44-Leads, Body 10x10mm, Pitch 0.8mm, IPC Medium Density)
footprint MQFP-KW44_L (QFP, 44-Leads, Body 10x10mm, Pitch 0.8mm, IPC High Density)
footprint MQFP-KW44_M (QFP, 44-Leads, Body 10x10mm, Pitch 0.8mm, IPC Low Density)
pins: 1 NC, 2 NC, 3 TEST (in), 4 OSC3, 5 NC, 6 OSC2, 7 OSC1, 8 V+ (power), 9 D1 (out), 10 C1 (out), 11 B1 (out), 12 A1 (out), 13 F1 (out), 14 G1 (out), 15 E1 (out), 16 D2 (out), 17 C2 (out), 18 B2 (out), 19 A2 (out), 20 F2 (out), 21 E2 (out), 22 D3 (out), 23 B3 (out), 24 F3 (out), 25 E3 (out), 26 AB4 (out), 27 POL (out), 28 BP (out), 29 G3 (out), 30 A3 (out), 31 C3 (out), 32 G2 (out), 33 NC, 34 V- (power), 35 VINT (out), 36 VBUFF, 37 CAZ, 38 VIN- (in), 39 VIN+ (in), 40 COM (power), 41 CREF-, 42 CREF+, 43 VREF- (in), 44 VREF+ (in)

## TC7126ACPL
designator U?
3-1/2 Digit Analog-to-Digital Converters, 40-Pin PDIP, Commercial Temperature; Manufacturer: Microchip; PartNumber: TC7126ACPL; DatasheetVersion: Feb-2006; PackageVersion: revBB, Aug-2009; PackageReference: PDIP600-PL40; PackageDescription: 40-Lead Plastic Dual In-Line (PL) - 600mil Body [PDIP]; Supplier 1: Digi-Key; Supplier Part Number 1: TC7126ACPL-ND; Mounting Technology: Through Hole; ComponentLink1Description: Manufacturer URL; ComponentLink1URL: http://www.microchip.com/; ComponentLink2Description: Datasheet; ComponentLink2URL: http://ww1.microchip.com/downloads/en/DeviceDoc/21458C.pdf; ComponentLink3Description: Package Specification; ComponentLink3URL: http://www.microchip.com/stellent/groups/techpub_sg/documents/packagingspec/en012702.pdf
footprint PDIP600-PL40 (DIP, 40-Leads, Row Spacing 15.24mm, Pitch 2.54mm, Body 51.8x13.5mm)
pins: 1 V+ (power), 2 D1 (out), 3 C1 (out), 4 B1 (out), 5 A1 (out), 6 F1 (out), 7 G1 (out), 8 E1 (out), 9 D2 (out), 10 C2 (out), 11 B2 (out), 12 A2 (out), 13 F2 (out), 14 E2 (out), 15 D3 (out), 16 B3 (out), 17 F3 (out), 18 E3 (out), 19 AB4 (out), 20 POL (out), 21 BP (out), 22 G3 (out), 23 A3 (out), 24 C3 (out), 25 G2 (out), 26 V- (power), 27 VINT (out), 28 VBUFF, 29 CAZ, 30 VIN- (in), 31 VIN+ (in), 32 COM (power), 33 CREF-, 34 CREF+, 35 VREF- (in), 36 VREF+ (in), 37 TEST (in), 38 OSC3, 39 OSC2, 40 OSC1

## TC7126ARCPL
designator U?
3-1/2 Digit Analog-to-Digital Converters, 40-Pin PDIP 600mil, Commercial Temperature; Manufacturer: Microchip; PartNumber: TC7126ARCPL; DatasheetVersion: Feb-2006; PackageVersion: revBB, Aug-2009; PackageReference: PDIP600-PL40; PackageDescription: 40-Lead Plastic Dual In-Line (PL) - 600mil Body [PDIP]; Supplier 1: Digi-Key; Supplier Part Number 1: TC7126ARCPL-ND; Mounting Technology: Through Hole; ComponentLink1Description: Manufacturer URL; ComponentLink1URL: http://www.microchip.com/; ComponentLink2Description: Datasheet; ComponentLink2URL: http://ww1.microchip.com/downloads/en/DeviceDoc/21458C.pdf; ComponentLink3Description: Package Specification; ComponentLink3URL: http://www.microchip.com/stellent/groups/techpub_sg/documents/packagingspec/en012702.pdf
footprint PDIP600-PL40 (DIP, 40-Leads, Row Spacing 15.24mm, Pitch 2.54mm, Body 51.8x13.5mm)
pins: 1 OSC1, 2 OSC2, 3 OSC3, 4 TEST (in), 5 VREF+ (in), 6 VREF- (in), 7 CREF+, 8 CREF-, 9 COM (power), 10 VIN+ (in), 11 VIN- (in), 12 CAZ, 13 VBUFF, 14 VINT (out), 15 V- (power), 16 G2 (out), 17 C3 (out), 18 A3 (out), 19 G3 (out), 20 BP (out), 21 POL (out), 22 AB4 (out), 23 E3 (out), 24 F3 (out), 25 B3 (out), 26 D3 (out), 27 E2 (out), 28 F2 (out), 29 A2 (out), 30 B2 (out), 31 C2 (out), 32 D2 (out), 33 E1 (out), 34 G1 (out), 35 F1 (out), 36 A1 (out), 37 B1 (out), 38 C1 (out), 39 D1 (out), 40 V+ (power)

## TC7126CKW
designator U?
3-1/2 Digit Analog-to-Digital Converters, 44-Pin MQFP, Commercial Temperature; Manufacturer: Microchip; PartNumber: TC7126CKW; DatasheetVersion: Feb-2006; PackageVersion: revBB, Aug-2009; PackageReference: MQFP-KW44; PackageDescription: 44-Lead Plastic Metric Quad Flatpack (KW) - 10x10x2mm Body, 3.20mm [MQFP]; Supplier 1: Digi-Key; Supplier Part Number 1: TC7126CKW-ND; Mounting Technology: Surface Mount; Code_JEDEC: MS-022-AB; Code_IPC: QFP80P1320X1320-44; ComponentLink1Description: Manufacturer URL; ComponentLink1URL: http://www.microchip.com/; ComponentLink2Description: Datasheet; ComponentLink2URL: http://ww1.microchip.com/downloads/en/DeviceDoc/21458C.pdf; ComponentLink3Description: Package Specification; ComponentLink3URL: http://www.microchip.com/stellent/groups/techpub_sg/documents/packagingspec/en012702.pdf
footprint MQFP-KW44_N (QFP, 44-Leads, Body 10x10mm, Pitch 0.8mm, IPC Medium Density)
footprint MQFP-KW44_L (QFP, 44-Leads, Body 10x10mm, Pitch 0.8mm, IPC High Density)
footprint MQFP-KW44_M (QFP, 44-Leads, Body 10x10mm, Pitch 0.8mm, IPC Low Density)
pins: 1 NC, 2 NC, 3 TEST (in), 4 OSC3, 5 NC, 6 OSC2, 7 OSC1, 8 V+ (power), 9 D1 (out), 10 C1 (out), 11 B1 (out), 12 A1 (out), 13 F1 (out), 14 G1 (out), 15 E1 (out), 16 D2 (out), 17 C2 (out), 18 B2 (out), 19 A2 (out), 20 F2 (out), 21 E2 (out), 22 D3 (out), 23 B3 (out), 24 F3 (out), 25 E3 (out), 26 AB4 (out), 27 POL (out), 28 BP (out), 29 G3 (out), 30 A3 (out), 31 C3 (out), 32 G2 (out), 33 NC, 34 V- (power), 35 VINT (out), 36 VBUFF, 37 CAZ, 38 VIN- (in), 39 VIN+ (in), 40 COM (power), 41 CREF-, 42 CREF+, 43 VREF- (in), 44 VREF+ (in)

## TC7126CKW713
designator U?
3-1/2 Digit Analog-to-Digital Converters, 44-Pin MQFP, Commercial Temperature, Tape and Reel; Manufacturer: Microchip; PartNumber: TC7126CKW713; DatasheetVersion: Feb-2006; PackageVersion: revBB, Aug-2009; PackageReference: MQFP-KW44; PackageDescription: 44-Lead Plastic Metric Quad Flatpack (KW) - 10x10x2mm Body, 3.20mm [MQFP]; Supplier 1: Digi-Key; Supplier Part Number 1: TC7126CKW713-ND; Mounting Technology: Surface Mount; Code_JEDEC: MS-022-AB; Code_IPC: QFP80P1320X1320-44; ComponentLink1Description: Manufacturer URL; ComponentLink1URL: http://www.microchip.com/; ComponentLink2Description: Datasheet; ComponentLink2URL: http://ww1.microchip.com/downloads/en/DeviceDoc/21458C.pdf; ComponentLink3Description: Package Specification; ComponentLink3URL: http://www.microchip.com/stellent/groups/techpub_sg/documents/packagingspec/en012702.pdf
footprint MQFP-KW44_N (QFP, 44-Leads, Body 10x10mm, Pitch 0.8mm, IPC Medium Density)
footprint MQFP-KW44_L (QFP, 44-Leads, Body 10x10mm, Pitch 0.8mm, IPC High Density)
footprint MQFP-KW44_M (QFP, 44-Leads, Body 10x10mm, Pitch 0.8mm, IPC Low Density)
pins: 1 NC, 2 NC, 3 TEST (in), 4 OSC3, 5 NC, 6 OSC2, 7 OSC1, 8 V+ (power), 9 D1 (out), 10 C1 (out), 11 B1 (out), 12 A1 (out), 13 F1 (out), 14 G1 (out), 15 E1 (out), 16 D2 (out), 17 C2 (out), 18 B2 (out), 19 A2 (out), 20 F2 (out), 21 E2 (out), 22 D3 (out), 23 B3 (out), 24 F3 (out), 25 E3 (out), 26 AB4 (out), 27 POL (out), 28 BP (out), 29 G3 (out), 30 A3 (out), 31 C3 (out), 32 G2 (out), 33 NC, 34 V- (power), 35 VINT (out), 36 VBUFF, 37 CAZ, 38 VIN- (in), 39 VIN+ (in), 40 COM (power), 41 CREF-, 42 CREF+, 43 VREF- (in), 44 VREF+ (in)

## TC7126CPL
designator U?
3-1/2 Digit Analog-to-Digital Converters, 40-Pin PDIP, Commercial Temperature; Manufacturer: Microchip; PartNumber: TC7126CPL; DatasheetVersion: Feb-2006; PackageVersion: revBB, Aug-2009; PackageReference: PDIP600-PL40; PackageDescription: 40-Lead Plastic Dual In-Line (PL) - 600mil Body [PDIP]; Supplier 1: Digi-Key; Supplier Part Number 1: TC7126CPL-ND; Mounting Technology: Through Hole; ComponentLink1Description: Manufacturer URL; ComponentLink1URL: http://www.microchip.com/; ComponentLink2Description: Datasheet; ComponentLink2URL: http://ww1.microchip.com/downloads/en/DeviceDoc/21458C.pdf; ComponentLink3Description: Package Specification; ComponentLink3URL: http://www.microchip.com/stellent/groups/techpub_sg/documents/packagingspec/en012702.pdf
footprint PDIP600-PL40 (DIP, 40-Leads, Row Spacing 15.24mm, Pitch 2.54mm, Body 51.8x13.5mm)
pins: 1 V+ (power), 2 D1 (out), 3 C1 (out), 4 B1 (out), 5 A1 (out), 6 F1 (out), 7 G1 (out), 8 E1 (out), 9 D2 (out), 10 C2 (out), 11 B2 (out), 12 A2 (out), 13 F2 (out), 14 E2 (out), 15 D3 (out), 16 B3 (out), 17 F3 (out), 18 E3 (out), 19 AB4 (out), 20 POL (out), 21 BP (out), 22 G3 (out), 23 A3 (out), 24 C3 (out), 25 G2 (out), 26 V- (power), 27 VINT (out), 28 VBUFF, 29 CAZ, 30 VIN- (in), 31 VIN+ (in), 32 COM (power), 33 CREF-, 34 CREF+, 35 VREF- (in), 36 VREF+ (in), 37 TEST (in), 38 OSC3, 39 OSC2, 40 OSC1

## TC7126IPL
designator U?
3-1/2 Digit Analog-to-Digital Converters, 40-Pin PDIP, Industrial Temperature; Manufacturer: Microchip; PartNumber: TC7126IPL; DatasheetVersion: Feb-2006; PackageVersion: revBB, Aug-2009; PackageReference: PDIP600-PL40; PackageDescription: 40-Lead Plastic Dual In-Line (PL) - 600mil Body [PDIP]; Supplier 1: Digi-Key; Supplier Part Number 1: TC7126IPL-ND; Mounting Technology: Through Hole; ComponentLink1Description: Manufacturer URL; ComponentLink1URL: http://www.microchip.com/; ComponentLink2Description: Datasheet; ComponentLink2URL: http://ww1.microchip.com/downloads/en/DeviceDoc/21458C.pdf; ComponentLink3Description: Package Specification; ComponentLink3URL: http://www.microchip.com/stellent/groups/techpub_sg/documents/packagingspec/en012702.pdf
footprint PDIP600-PL40 (DIP, 40-Leads, Row Spacing 15.24mm, Pitch 2.54mm, Body 51.8x13.5mm)
pins: 1 V+ (power), 2 D1 (out), 3 C1 (out), 4 B1 (out), 5 A1 (out), 6 F1 (out), 7 G1 (out), 8 E1 (out), 9 D2 (out), 10 C2 (out), 11 B2 (out), 12 A2 (out), 13 F2 (out), 14 E2 (out), 15 D3 (out), 16 B3 (out), 17 F3 (out), 18 E3 (out), 19 AB4 (out), 20 POL (out), 21 BP (out), 22 G3 (out), 23 A3 (out), 24 C3 (out), 25 G2 (out), 26 V- (power), 27 VINT (out), 28 VBUFF, 29 CAZ, 30 VIN- (in), 31 VIN+ (in), 32 COM (power), 33 CREF-, 34 CREF+, 35 VREF- (in), 36 VREF+ (in), 37 TEST (in), 38 OSC3, 39 OSC2, 40 OSC1

## TC7126RCPL
designator U?
3-1/2 Digit Analog-to-Digital Converters, 40-Pin PDIP 600mil, Commercial Temperature; Manufacturer: Microchip; PartNumber: TC7126RCPL; DatasheetVersion: Feb-2006; PackageVersion: revBB, Aug-2009; PackageReference: PDIP600-PL40; PackageDescription: 40-Lead Plastic Dual In-Line (PL) - 600mil Body [PDIP]; Supplier 1: Digi-Key; Supplier Part Number 1: TC7126RCPL-ND; Mounting Technology: Through Hole; ComponentLink1Description: Manufacturer URL; ComponentLink1URL: http://www.microchip.com/; ComponentLink2Description: Datasheet; ComponentLink2URL: http://ww1.microchip.com/downloads/en/DeviceDoc/21458C.pdf; ComponentLink3Description: Package Specification; ComponentLink3URL: http://www.microchip.com/stellent/groups/techpub_sg/documents/packagingspec/en012702.pdf
footprint PDIP600-PL40 (DIP, 40-Leads, Row Spacing 15.24mm, Pitch 2.54mm, Body 51.8x13.5mm)
pins: 1 OSC1, 2 OSC2, 3 OSC3, 4 TEST (in), 5 VREF+ (in), 6 VREF- (in), 7 CREF+, 8 CREF-, 9 COM (power), 10 VIN+ (in), 11 VIN- (in), 12 CAZ, 13 VBUFF, 14 VINT (out), 15 V- (power), 16 G2 (out), 17 C3 (out), 18 A3 (out), 19 G3 (out), 20 BP (out), 21 POL (out), 22 AB4 (out), 23 E3 (out), 24 F3 (out), 25 B3 (out), 26 D3 (out), 27 E2 (out), 28 F2 (out), 29 A2 (out), 30 B2 (out), 31 C2 (out), 32 D2 (out), 33 E1 (out), 34 G1 (out), 35 F1 (out), 36 A1 (out), 37 B1 (out), 38 C1 (out), 39 D1 (out), 40 V+ (power)

## TC7129CKW
designator U?
4-1/2 Digit Analog-to-Digital Converters with On-Chip LCD Drivers, 44-Pin MQFP, Commercial Temperature; Manufacturer: Microchip; PartNumber: TC7129CKW; DatasheetVersion: Feb-2006; PackageVersion: revBB, Aug-2009; PackageReference: MQFP-KW44; PackageDescription: 44-Lead Plastic Metric Quad Flatpack (KW) - 10x10x2mm Body, 3.20mm [MQFP]; Supplier 1: Digi-Key; Supplier Part Number 1: TC7129CKW-ND; Mounting Technology: Surface Mount; Code_JEDEC: MS-022-AB; Code_IPC: QFP80P1320X1320-44; ComponentLink1Description: Manufacturer URL; ComponentLink1URL: http://www.microchip.com/; ComponentLink2Description: Datasheet; ComponentLink2URL: http://ww1.microchip.com/downloads/en/DeviceDoc/21459D.pdf; ComponentLink3Description: Package Specification; ComponentLink3URL: http://www.microchip.com/stellent/groups/techpub_sg/documents/packagingspec/en012702.pdf
footprint MQFP-KW44_N (QFP, 44-Leads, Body 10x10mm, Pitch 0.8mm, IPC Medium Density)
footprint MQFP-KW44_L (QFP, 44-Leads, Body 10x10mm, Pitch 0.8mm, IPC High Density)
footprint MQFP-KW44_M (QFP, 44-Leads, Body 10x10mm, Pitch 0.8mm, IPC Low Density)
pins: 1 F1,E1,DP1 (out), 2 B2,C2,LOBATT (out), 3 A2,G2,D2 (out), 4 F2,E2,DP2 (out), 5 B3,C3,MINUS (out), 6 NC, 7 A3,G3,D3 (out), 8 F3,E3,DP3 (out), 9 B4,C4,BC5 (out), 10 A4,D4,G4 (out), 11 F4,E4,DP4 (out), 12 BP3 (out), 13 BP2 (out), 14 BP1 (out), 15 VDISP (power), 16 DP4/OR (io), 17 NC, 18 DP3/UR (io), 19 ~{LATCH}/HOLD (io), 20 V- (power), 21 V+ (power), 22 INTIN (in), 23 INTOUT (out), 24 CONT (io), 25 COMMON (power), 26 CREF+, 27 CREF-, 28 NC, 29 BUFFER (out), 30 INLO (in), 31 INHI (in), 32 REFHI (in), 33 REFLO (in), 34 DGND (power), 35 RANGE (in), 36 DP2 (out), 37 DP1 (out), 38 OSC2, 39 NC, 40 OSC1, 41 OSC3, 42 ANNUN (out), 43 B1,C1,CONT (out), 44 A1,G1,D1 (out)

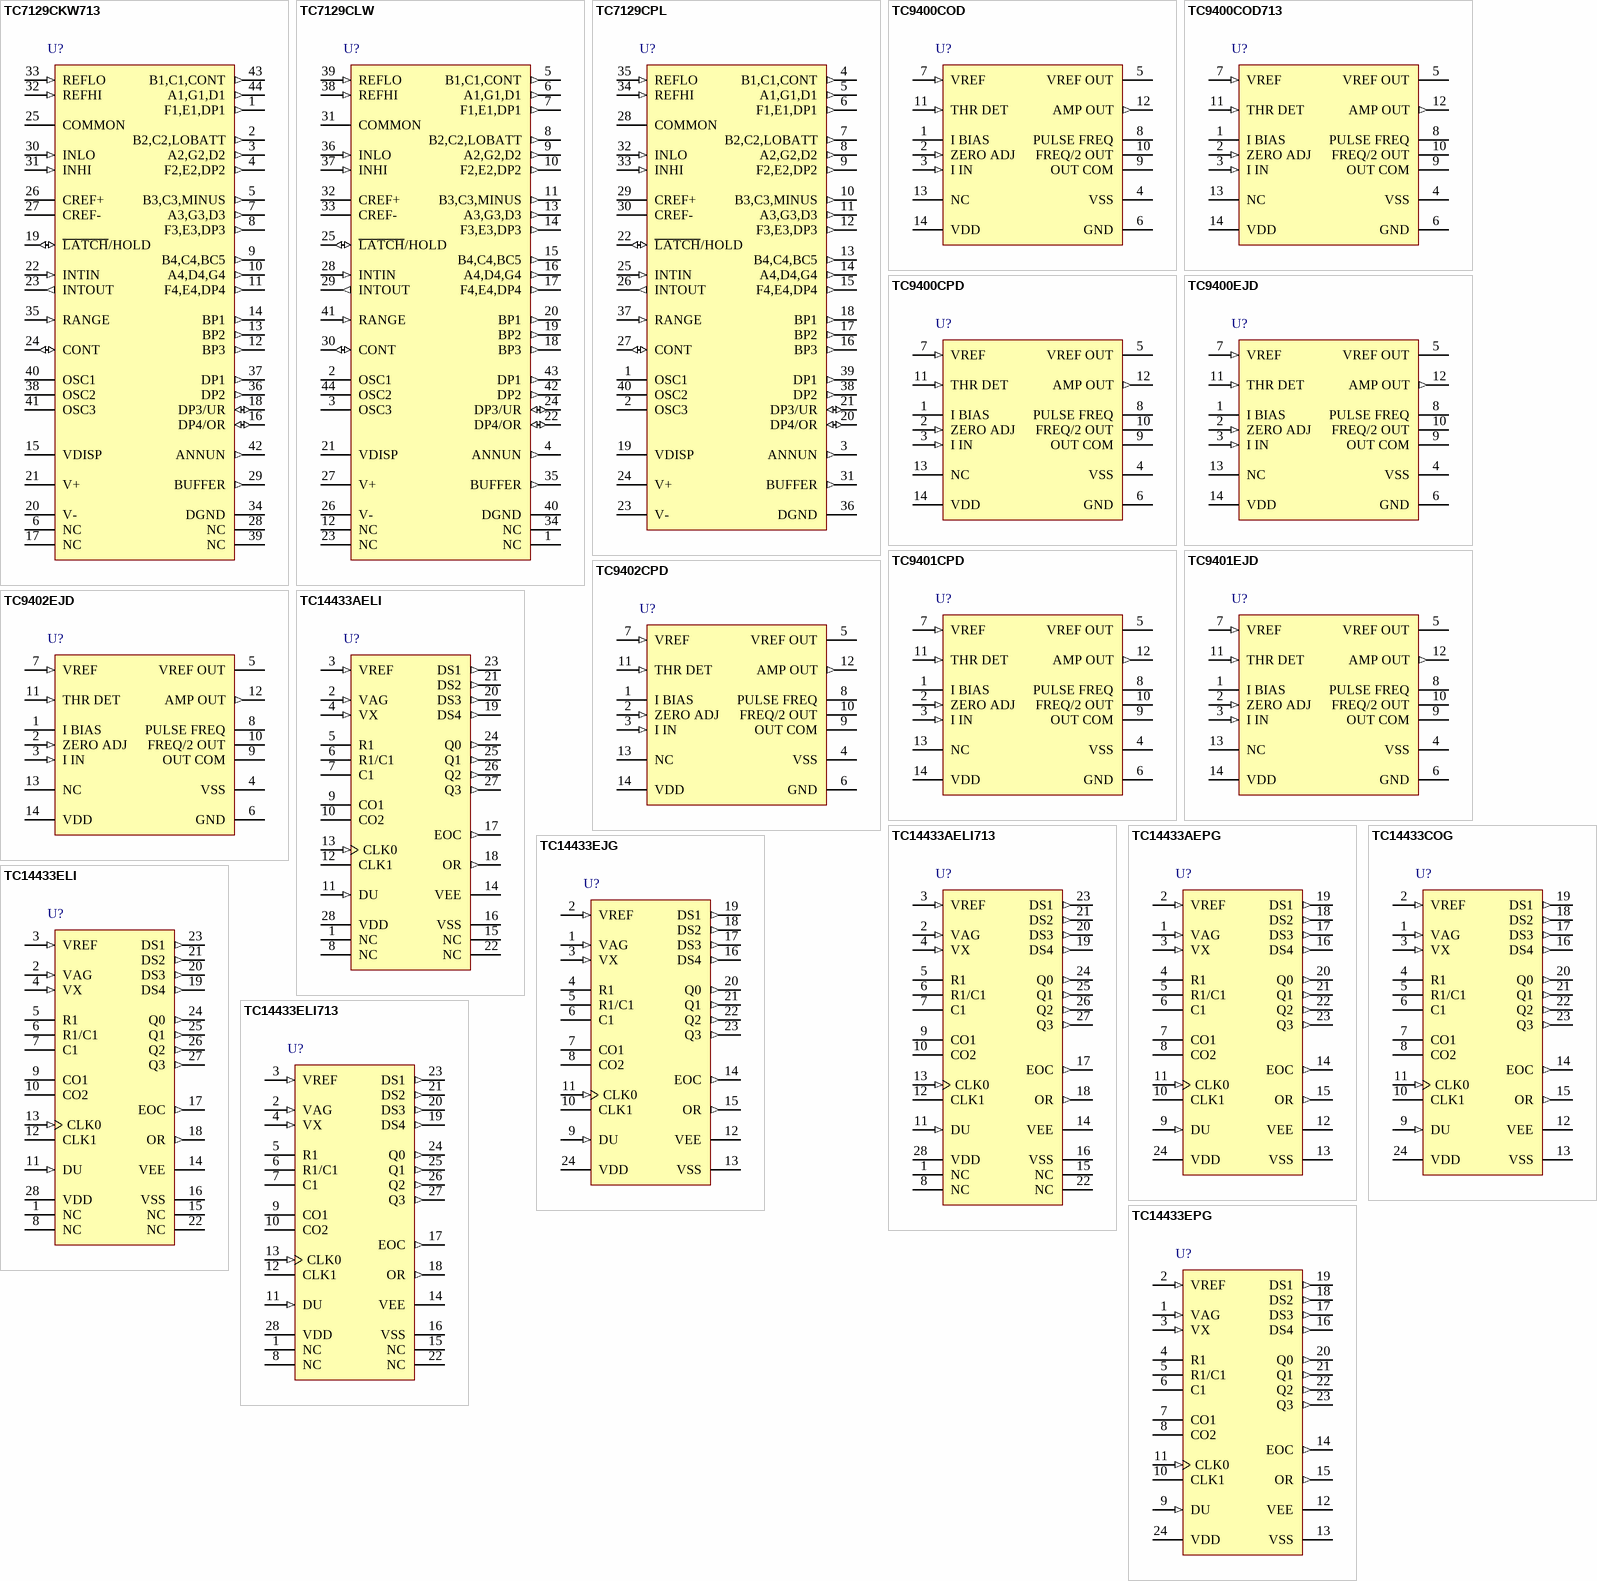
[diagram p44: symbols TC7129CKW713 to TC14433EPG]

## TC7129CKW713
designator U?
4-1/2 Digit Analog-to-Digital Converters with On-Chip LCD Drivers, 44-Pin MQFP, Commercial Temperature, Tape and Reel; Manufacturer: Microchip; PartNumber: TC7129CKW713; DatasheetVersion: Feb-2006; PackageVersion: revBB, Aug-2009; PackageReference: MQFP-KW44; PackageDescription: 44-Lead Plastic Metric Quad Flatpack (KW) - 10x10x2mm Body, 3.20mm [MQFP]; Supplier 1: Digi-Key; Supplier Part Number 1: TC7129CKW713-ND; Mounting Technology: Surface Mount; Code_JEDEC: MS-022-AB; Code_IPC: QFP80P1320X1320-44; ComponentLink1Description: Manufacturer URL; ComponentLink1URL: http://www.microchip.com/; ComponentLink2Description: Datasheet; ComponentLink2URL: http://ww1.microchip.com/downloads/en/DeviceDoc/21459D.pdf; ComponentLink3Description: Package Specification; ComponentLink3URL: http://www.microchip.com/stellent/groups/techpub_sg/documents/packagingspec/en012702.pdf
footprint MQFP-KW44_N (QFP, 44-Leads, Body 10x10mm, Pitch 0.8mm, IPC Medium Density)
footprint MQFP-KW44_L (QFP, 44-Leads, Body 10x10mm, Pitch 0.8mm, IPC High Density)
footprint MQFP-KW44_M (QFP, 44-Leads, Body 10x10mm, Pitch 0.8mm, IPC Low Density)
pins: 1 F1,E1,DP1 (out), 2 B2,C2,LOBATT (out), 3 A2,G2,D2 (out), 4 F2,E2,DP2 (out), 5 B3,C3,MINUS (out), 6 NC, 7 A3,G3,D3 (out), 8 F3,E3,DP3 (out), 9 B4,C4,BC5 (out), 10 A4,D4,G4 (out), 11 F4,E4,DP4 (out), 12 BP3 (out), 13 BP2 (out), 14 BP1 (out), 15 VDISP (power), 16 DP4/OR (io), 17 NC, 18 DP3/UR (io), 19 ~{LATCH}/HOLD (io), 20 V- (power), 21 V+ (power), 22 INTIN (in), 23 INTOUT (out), 24 CONT (io), 25 COMMON (power), 26 CREF+, 27 CREF-, 28 NC, 29 BUFFER (out), 30 INLO (in), 31 INHI (in), 32 REFHI (in), 33 REFLO (in), 34 DGND (power), 35 RANGE (in), 36 DP2 (out), 37 DP1 (out), 38 OSC2, 39 NC, 40 OSC1, 41 OSC3, 42 ANNUN (out), 43 B1,C1,CONT (out), 44 A1,G1,D1 (out)

## TC7129CLW
designator U?
4-1/2 Digit Analog-to-Digital Converters with On-Chip LCD Drivers, 44-Pin PLCC, Commercial Temperature; Manufacturer: Microchip; PartNumber: TC7129CLW; DatasheetVersion: Feb-2006; PackageVersion: revBB, Aug-2009; PackageReference: PLCC-LW44; PackageDescription: 44-Lead Plastic Leaded Chip Carrier (LW) - Square [PLCC]; Supplier 1: Digi-Key; Supplier Part Number 1: TC7129CLW-ND; Mounting Technology: Surface Mount; Code_IPC: PLCC-44; ComponentLink1Description: Manufacturer URL; ComponentLink1URL: http://www.microchip.com/; ComponentLink2Description: Datasheet; ComponentLink2URL: http://ww1.microchip.com/downloads/en/DeviceDoc/21459D.pdf; ComponentLink3Description: Package Specification; ComponentLink3URL: http://www.microchip.com/stellent/groups/techpub_sg/documents/packagingspec/en012702.pdf
footprint PLCC-LW44_N (Leaded Chip Carrier, 44-Leads, Body 16.6x16.6mm, Pitch 1.27mm, IPC Medium Density)
footprint PLCC-LW44_L (Leaded Chip Carrier, 44-Leads, Body 16.6x16.6mm, Pitch 1.27mm, IPC High Density)
footprint PLCC-LW44_M (Leaded Chip Carrier, 44-Leads, Body 16.6x16.6mm, Pitch 1.27mm, IPC Low Density)
pins: 1 NC, 2 OSC1, 3 OSC3, 4 ANNUN (out), 5 B1,C1,CONT (out), 6 A1,G1,D1 (out), 7 F1,E1,DP1 (out), 8 B2,C2,LOBATT (out), 9 A2,G2,D2 (out), 10 F2,E2,DP2 (out), 11 B3,C3,MINUS (out), 12 NC, 13 A3,G3,D3 (out), 14 F3,E3,DP3 (out), 15 B4,C4,BC5 (out), 16 A4,D4,G4 (out), 17 F4,E4,DP4 (out), 18 BP3 (out), 19 BP2 (out), 20 BP1 (out), 21 VDISP (power), 22 DP4/OR (io), 23 NC, 24 DP3/UR (io), 25 ~{LATCH}/HOLD (io), 26 V- (power), 27 V+ (power), 28 INTIN (in), 29 INTOUT (out), 30 CONT (io), 31 COMMON (power), 32 CREF+, 33 CREF-, 34 NC, 35 BUFFER (out), 36 INLO (in), 37 INHI (in), 38 REFHI (in), 39 REFLO (in), 40 DGND (power), 41 RANGE (in), 42 DP2 (out), 43 DP1 (out), 44 OSC2

## TC7129CPL
designator U?
4-1/2 Digit Analog-to-Digital Converters with On-Chip LCD Drivers, 40-Pin PDIP, Commercial Temperature; Manufacturer: Microchip; PartNumber: TC7129CPL; DatasheetVersion: Feb-2006; PackageVersion: revBB, Aug-2009; PackageReference: PDIP600-PL40; PackageDescription: 40-Lead Plastic Dual In-Line (PL) - 600mil Body [PDIP]; Supplier 1: Digi-Key; Supplier Part Number 1: TC7129CPL-ND; Mounting Technology: Through Hole; ComponentLink1Description: Manufacturer URL; ComponentLink1URL: http://www.microchip.com/; ComponentLink2Description: Datasheet; ComponentLink2URL: http://ww1.microchip.com/downloads/en/DeviceDoc/21459D.pdf; ComponentLink3Description: Package Specification; ComponentLink3URL: http://www.microchip.com/stellent/groups/techpub_sg/documents/packagingspec/en012702.pdf
footprint PDIP600-PL40 (DIP, 40-Leads, Row Spacing 15.24mm, Pitch 2.54mm, Body 51.8x13.5mm)
pins: 1 OSC1, 2 OSC3, 3 ANNUN (out), 4 B1,C1,CONT (out), 5 A1,G1,D1 (out), 6 F1,E1,DP1 (out), 7 B2,C2,LOBATT (out), 8 A2,G2,D2 (out), 9 F2,E2,DP2 (out), 10 B3,C3,MINUS (out), 11 A3,G3,D3 (out), 12 F3,E3,DP3 (out), 13 B4,C4,BC5 (out), 14 A4,D4,G4 (out), 15 F4,E4,DP4 (out), 16 BP3 (out), 17 BP2 (out), 18 BP1 (out), 19 VDISP (power), 20 DP4/OR (io), 21 DP3/UR (io), 22 ~{LATCH}/HOLD (io), 23 V- (power), 24 V+ (power), 25 INTIN (in), 26 INTOUT (out), 27 CONT (io), 28 COMMON (power), 29 CREF+, 30 CREF-, 31 BUFFER (out), 32 INLO (in), 33 INHI (in), 34 REFHI (in), 35 REFLO (in), 36 DGND (power), 37 RANGE (in), 38 DP2 (out), 39 DP1 (out), 40 OSC2

## TC9400COD
designator U?
Voltage-to-Frequency / Frequency-to-Voltage Converters, 14-Pin SOIC 150mil, Commercial Temperature; Manufacturer: Microchip; PartNumber: TC9400COD; DatasheetVersion: revD, Sep-2007; PackageVersion: revBB, Aug-2009; PackageReference: SOIC-OD14; PackageDescription: 14-Lead Plastic Small Outline (OD) - Narrow, 3.90mm Body [SOIC]; Supplier 1: Digi-Key; Supplier Part Number 1: TC9400COD-ND; Mounting Technology: Surface Mount; Code_JEDEC: MS-012-AB; Code_IPC: SOIC127P600-14; ComponentLink1Description: Manufacturer URL; ComponentLink1URL: http://www.microchip.com/; ComponentLink2Description: Datasheet; ComponentLink2URL: http://ww1.microchip.com/downloads/en/DeviceDoc/21483d.pdf; ComponentLink3Description: Package Specification; ComponentLink3URL: http://www.microchip.com/stellent/groups/techpub_sg/documents/packagingspec/en012702.pdf
footprint SOIC-OD14_N (SOIC, 14-Leads, Body 8.7x3.9mm, Pitch 1.27mm, IPC Medium Density)
footprint SOIC-OD14_L (SOIC, 14-Leads, Body 8.7x3.9mm, Pitch 1.27mm, IPC High Density)
footprint SOIC-OD14_M (SOIC, 14-Leads, Body 8.7x3.9mm, Pitch 1.27mm, IPC Low Density)
pins: 1 I BIAS, 2 ZERO ADJ (in), 3 I IN (in), 4 VSS (power), 5 VREF OUT, 6 GND (power), 7 VREF (in), 8 PULSE FREQ (oc), 9 OUT COM (power), 10 FREQ/2 OUT (oc), 11 THR DET (in), 12 AMP OUT (out), 13 NC, 14 VDD (power)

## TC9400COD713
designator U?
Voltage-to-Frequency / Frequency-to-Voltage Converters, 14-Pin SOIC 150mil, Commercial Temperature, Tape and Reel; Manufacturer: Microchip; PartNumber: TC9400COD713; DatasheetVersion: revD, Sep-2007; PackageVersion: revBB, Aug-2009; PackageReference: SOIC-OD14; PackageDescription: 14-Lead Plastic Small Outline (OD) - Narrow, 3.90mm Body [SOIC]; Supplier 1: Digi-Key; Supplier Part Number 1: TC9400COD713-ND; Mounting Technology: Surface Mount; Code_JEDEC: MS-012-AB; Code_IPC: SOIC127P600-14; ComponentLink1Description: Manufacturer URL; ComponentLink1URL: http://www.microchip.com/; ComponentLink2Description: Datasheet; ComponentLink2URL: http://ww1.microchip.com/downloads/en/DeviceDoc/21483d.pdf; ComponentLink3Description: Package Specification; ComponentLink3URL: http://www.microchip.com/stellent/groups/techpub_sg/documents/packagingspec/en012702.pdf
footprint SOIC-OD14_N (SOIC, 14-Leads, Body 8.7x3.9mm, Pitch 1.27mm, IPC Medium Density)
footprint SOIC-OD14_L (SOIC, 14-Leads, Body 8.7x3.9mm, Pitch 1.27mm, IPC High Density)
footprint SOIC-OD14_M (SOIC, 14-Leads, Body 8.7x3.9mm, Pitch 1.27mm, IPC Low Density)
pins: 1 I BIAS, 2 ZERO ADJ (in), 3 I IN (in), 4 VSS (power), 5 VREF OUT, 6 GND (power), 7 VREF (in), 8 PULSE FREQ (oc), 9 OUT COM (power), 10 FREQ/2 OUT (oc), 11 THR DET (in), 12 AMP OUT (out), 13 NC, 14 VDD (power)

## TC9400CPD
designator U?
Voltage-to-Frequency / Frequency-to-Voltage Converters, 14-Pin PDIP, Commercial Temperature; Manufacturer: Microchip; PartNumber: TC9400CPD; DatasheetVersion: revD, Sep-2007; PackageVersion: revBB, Aug-2009; PackageReference: PDIP300-PD14; PackageDescription: 14-Lead Plastic Dual In-Line (PD) - 300 mil Body [PDIP]; Supplier 1: Digi-Key; Supplier Part Number 1: TC9400CPD-ND; Mounting Technology: Through Hole; Code_JEDEC: MS-001-AA; ComponentLink1Description: Manufacturer URL; ComponentLink1URL: http://www.microchip.com/; ComponentLink2Description: Datasheet; ComponentLink2URL: http://ww1.microchip.com/downloads/en/DeviceDoc/21483d.pdf; ComponentLink3Description: Package Specification; ComponentLink3URL: http://www.microchip.com/stellent/groups/techpub_sg/documents/packagingspec/en012702.pdf
footprint PDIP300-PD14 (DIP, 14-Leads, Row Spacing 7.62mm, Pitch 2.54mm, Body 19.2x6.6mm)
pins: 1 I BIAS, 2 ZERO ADJ (in), 3 I IN (in), 4 VSS (power), 5 VREF OUT, 6 GND (power), 7 VREF (in), 8 PULSE FREQ (oc), 9 OUT COM (power), 10 FREQ/2 OUT (oc), 11 THR DET (in), 12 AMP OUT (out), 13 NC, 14 VDD (power)